# Altium footprint library Axial Lead Diode.PcbLib: 17 footprints (part 2 of 2)
Each footprint in its own frame and in the unit in brackets; x right, y up, seen from the top. Pads: shape width x height; smd on the part's side, far side on the other; paste and mask are expansions set on the pad; w line width, h text height; cw(c..) or ccw(c..) is an arc to the next point about the centre after c.
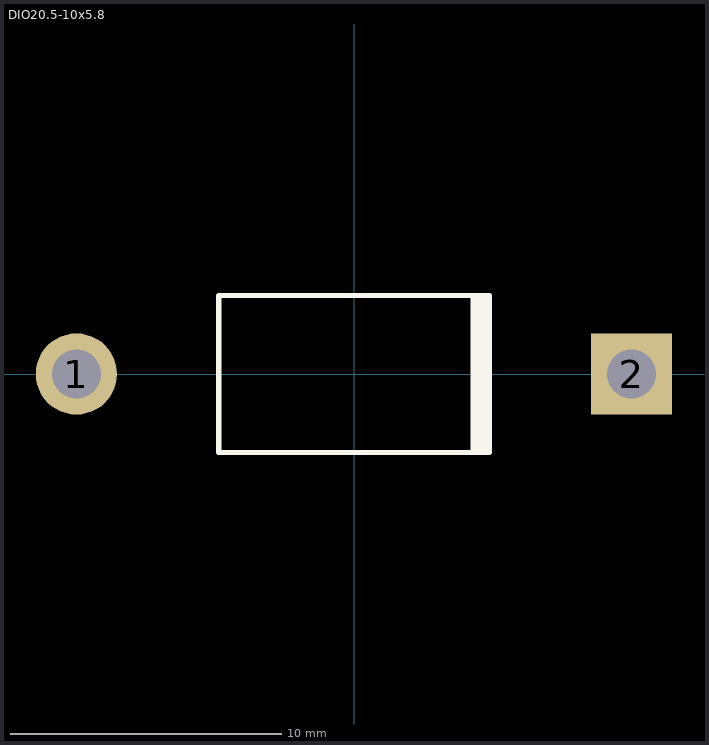
[diagram p1: the footprint, top view; thin cyan lines are the x and y axes]

## DIO20.5-10x5.8 [mm] "Diode, Axial; Body 9.9 x 5.8 mm (LxDia. max), Lead Dia. 1.5 mm (max)"
height 5.8
pads (2):
  round 3 hole 1.8: 1(-10.25,0)
  rect 3x3 hole 1.8: 2(10.25,0)
Top Overlay:
  rectangle: 4.3,-2.9 5.1,2.9
  lines w0.2: 5,-2.9 -5,-2.9 -5,2.9 5,2.9